# Altium footprint library OptoElectronics.PcbLib: 6 footprints
Each footprint in its own frame and in the unit in brackets; x right, y up, seen from the top. Pads: shape width x height; smd on the part's side, far side on the other; paste and mask are expansions set on the pad; w line width, h text height; cw(c..) or ccw(c..) is an arc to the next point about the centre after c.
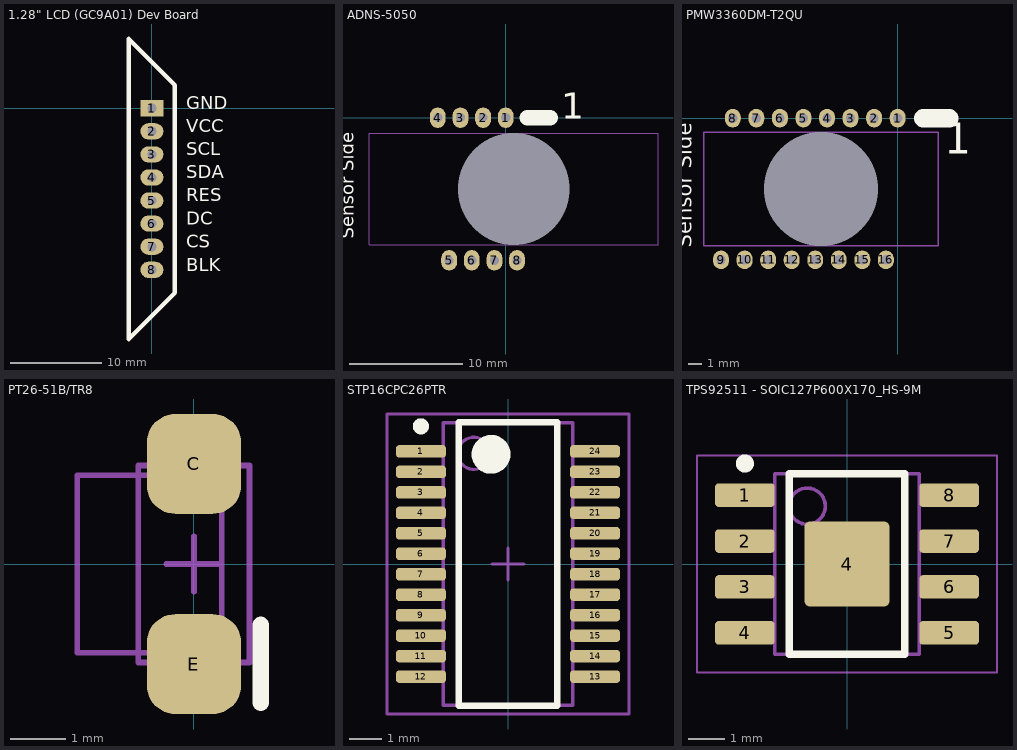
[diagram p0: the footprints below, top view; thin cyan lines are the x and y axes]

## 1.28" LCD (GC9A01) Dev Board [mil]
pads (8):
  rect 100x70 hole 40 paste-3897.64: 1(0,0)
  oval 100x70 hole 40 paste-3897.64: 2(0,-100) 3(0,-200) 4(0,-300) 5(0,-400) 6(0,-500) 7(0,-600) 8(0,-700)
Top Overlay:
  lines w19.68: -100,-1000 -100,300 100,100 100,-800 -100,-1000
  text "GND" at 150,-23.57 h98.43
  text "VCC" at 150,-123.57 h98.43
  text "SCL" at 150,-223.57 h98.43
  text "SDA" at 150,-323.57 h98.43
  text "RES" at 150,-423.57 h98.43
  text "DC" at 150,-523.57 h98.43
  text "CS" at 150,-623.57 h98.43
  text "BLK" at 150,-725 h98.43

## ADNS-5050 [mm]
pads (9):
  oval 1.4x1.8 hole 0.8: 1(0,0) 2(-2,0) 3(-4,0) 4(-6,0) 5(-5,-12.6) 6(-3,-12.6) 7(-1,-12.6) 8(1,-12.6)
  rect 0x0 hole 9.85 square unplated: ""(0.7,-6.3)
Top Overlay:
  lines w1.4: 1.925,0 3.9,0
  text "Sensor Side" at -13.05,-10.7 h2
  text "1" at 4.9,-0.875 h4
Bottom Overlay:
  text "Optic Side" at -13.075,-2.4 h2
Board Outline:
  lines w0.1: -12.05,-11.225 -12.05,-1.375 13.45,-1.375 13.45,-11.225 -12.05,-11.225
3D body "ADNS-5050.STEP": height 4.71, standoff -7.14, extent -15,-14.3 15,1.7

## PMW3360DM-T2QU [mm]
pads (17):
  oval 1.2x1.4 hole 0.7: 1(0,0) 2(-1.778,0) 3(-3.556,0) 4(-5.334,0) 5(-7.112,0) 6(-8.89,0) 7(-10.668,0) 8(-12.446,0) 9(-13.335,-10.7) 10(-11.557,-10.7) 11(-9.779,-10.7) 12(-8.001,-10.7) 13(-6.223,-10.7) 14(-4.445,-10.7) 15(-2.667,-10.7) 16(-0.889,-10.7)
  rect 0x0 hole 8.6 square unplated: ""(-5.8,-5.35)
Top Overlay:
  lines w1.4: 1.925,0 3.9,0
  text "1" at 3.5,-3.5 h4
  text "Sensor Side" at -15.15,-9.8 h2
Bottom Overlay:
  text "Optic Side" at -15.6,-1.475 h2
Board Outline:
  lines w0.1: -14.65,-9.65 3.05,-9.65 3.05,-1.05 -14.65,-1.05 -14.65,-9.65
3D body "PMW3360-LM19-LSI-Assembly.stp": height 2.44, standoff -6.06, extent -16.055,-14.759 5.095,4.091

## PT26-51B/TR8 [mm]
height 0.8
pads (2):
  rrect60% 1.7x1.8 smd paste-0.03: C(0,1.802) E(0,-1.802)
Top Overlay:
  lines w0.3: 1.2,-2.5 1.2,-1.1
Mechanical 13:
  lines w0.1: -2.1,-1.6 0.5,-1.6 0.5,1.6 -2.1,1.6 -2.1,-1.6
Mechanical 15:
  lines w0.1: -0.5,0 0.5,0 ; 0,-0.5 0,0.5 ; -1,-1.775 1,-1.775 1,1.775 -1,1.775 -1,-1.775
3D body "PT26-51B-TR8.stp": height 1.6, standoff 0, extent -2.05,-1.6 0.45,1.6

## STP16CPC26PTR [mm] "SOP, 24-Leads, Body 8.8x4.0mm (max), Pitch 0.63mm, IPC Medium Density"
height 1.73
pads (24):
  rrect50% 1.55x0.38 smd paste-0.025 mask+0.07: 1(-2.7,3.492) 2(-2.7,2.857) 3(-2.7,2.222) 4(-2.7,1.587) 5(-2.7,0.953) 6(-2.7,0.318) 7(-2.7,-0.318) 8(-2.7,-0.953) 9(-2.7,-1.587) 10(-2.7,-2.222) 11(-2.7,-2.857) 12(-2.7,-3.492) 13(2.7,-3.492) 14(2.7,-2.857) 15(2.7,-2.222) 16(2.7,-1.587) 17(2.7,-0.953) 18(2.7,-0.318) 19(2.7,0.318) 20(2.7,0.953) 21(2.7,1.587) 22(2.7,2.222) 23(2.7,2.857) 24(2.7,3.492)
Top Overlay:
  circle w0.6: c-0.525,3.4 r0.3
  circle w0.25: c-2.7,4.267 r0.125
  lines w0.2: -1.525,-4.4 1.525,-4.4 1.525,4.4 -1.525,4.4 -1.525,-4.4
Mechanical 13:
  circle w0.1: c-1.055,3.43 r0.5
  lines w0.1: -2.005,-4.38 2.005,-4.38 2.005,4.38 -2.005,4.38 -2.005,-4.38
Mechanical 15:
  lines w0.1: -0.5,0 0.5,0 ; 0,-0.5 0,0.5 ; -3.75,-4.65 3.75,-4.65 3.75,4.65 -3.75,4.65 -3.75,-4.65
3D body: height 1.73, standoff 0.1, extent -2.005,-4.38 2.005,4.38

## TPS92511 - SOIC127P600X170_HS-9M [mm] "SOIC, 8-Leads, Body 4.90x3.90mm, Pitch 1.27mm, Thermal Pad 2.34x2.34mm, IPC Low Density"
height 1.7
pads (9):
  rrect30% 1.65x0.65 smd paste-0.025: 1(-2.825,1.905) 2(-2.825,0.635) 3(-2.825,-0.635) 4(-2.825,-1.905) 5(2.825,-1.905) 6(2.825,-0.635) 7(2.825,0.635) 8(2.825,1.905)
  rrect10% 2.34x2.34 smd paste-0.1: 4(0,0)
Top Overlay:
  circle w0.25: c-2.825,2.78 r0.125
  lines w0.2: -1.6,-2.5 -1.6,2.5 1.6,2.5 1.6,-2.5 -1.6,-2.5
Mechanical 13:
  circle w0.1: c-1.1,1.6 r0.5
  lines w0.1: -2,-2.5 -2,2.5 2,2.5 2,-2.5 -2,-2.5
Mechanical 15:
  lines w0.05: -4.15,-3 -4.15,3 4.15,3 4.15,-3 -4.15,-3
  lines w0.1: -0.5,0 0.5,0 ; 0,-0.5 0,0.5
3D body: height 1.7, standoff 0.1, extent -2,-2.5 2,2.5